# EAGLE library part 74LVC2GU04 (library nxp)
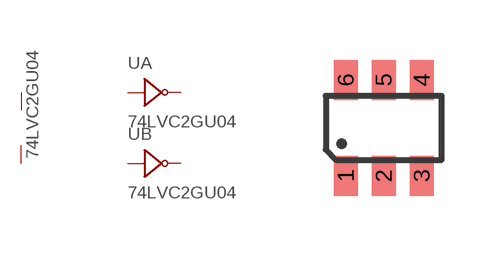
[diagram p0: symbol with the pads of TSOP-6; footprint TSOP-6]

Designator prefix -; gates A=NOT_GATE B=NOT_GATE P=PWR

## 74LVC2GU04TSOP-4  [TSOP-6]
1  A:A
2  P:PWR
3  B:A
4  B:B
5  P:GND
6  A:B

## Footprint TSOP-6 (pad centres in mm)
smd 0.6 x 1: 1 -0.95,-1.2; 2 0,-1.2; 3 0.95,-1.2; 4 0.95,1.2; 5 0,1.2; 6 -0.95,1.2